# EAGLE library part SEN-13762 (library disdev)
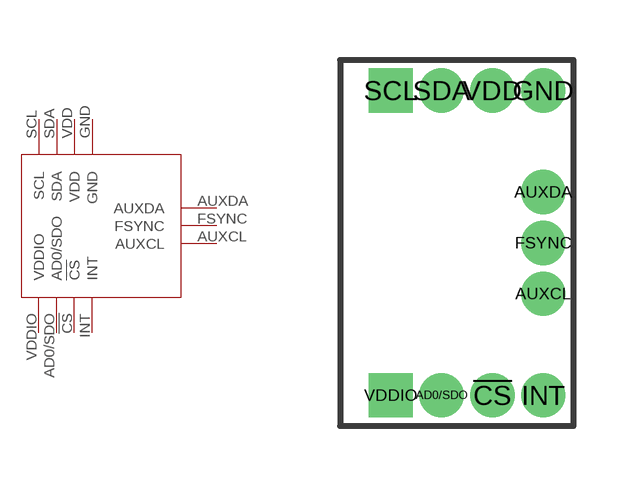
[diagram p3: symbol with the pads of SEN-13762; footprint SEN-13762]

Designator prefix -

## SEN-13762  [SEN-13762]
!CS  !CS
AD0/SDO  AD0/SDO
AUXCL  AUXCL
AUXDA  AUXDA
FSYNC  FSYNC
GND  GND
INT  INT
SCL  SCL
SDA  SDA
VDD  VDD
VDDIO  VDDIO

## Footprint SEN-13762 (pad centres in mm)
drill 0.6: !CS 2.54,-7.62; AD0/SDO 1.27,-7.62; AUXCL 3.81,-5.08; AUXDA 3.81,-2.54; FSYNC 3.81,-3.81; GND 3.81,0; INT 3.81,-7.62; SDA 1.27,0; VDD 2.54,0
drill 0.6 square: SCL 0,0; VDDIO 0,-7.62